# EAGLE library part PIC12*F1572 (library microchip_pic12f)
Low pincount microcontroller http://www.microchip.com/wwwproducts/Devices.aspx?product=PIC12F1572 Properties Parameter Name Value Program Memory Type Flash Program Memory (KB) 3.5 CPU Speed (MIPS) 8 RAM Bytes 256 Digital Communication Peripherals 1-UART, Capture/Compare/PWM Peripherals 3 Timers 2 x 8-bit, 4 x 16-bit ADC 4 ch, 10-bit Comparators 1 Temperature Range (C) -40 to 125 Operating Voltage Range (V) 1.8 to 5.5 Pin Count 8 Cap Touch Channels 4 Features Enhanced Mid-range Core with 49 Instruction, 16 Stack Levels Flash Program Memory with self read/write capability 128 Bytes of Non-Volatile Data Storage, High-Endurance Flash (HEF) Internal clock speeds from 31kHz to 32MHz 3x Standalone 16-bit PWMs Complementary Waveform Generator (CWG) 4 Channel 10-bit ADC with Voltage Reference 5-bit Digital to Analog Converter (DAC) Comparator 2x 8-bit Timers (TMR0/TMR2) 1x 16-bit Timer (TMR1) Three additional 16-bit Timers available using the 16-bit PWMs Extended Watchdog Timer (WDT) Enhanced Power-On/Off-Reset Low-Power Brown-Out Reset (LPBOR) Programmable Brown-Out Reset (BOR) In Circuit Serial Programming (ICSP) PIC12LF1572 (1.8V – 3.6V) PIC12F1572 (2.3V – 5.5V) Library from www.mikroelektroniikka.fi/lbr
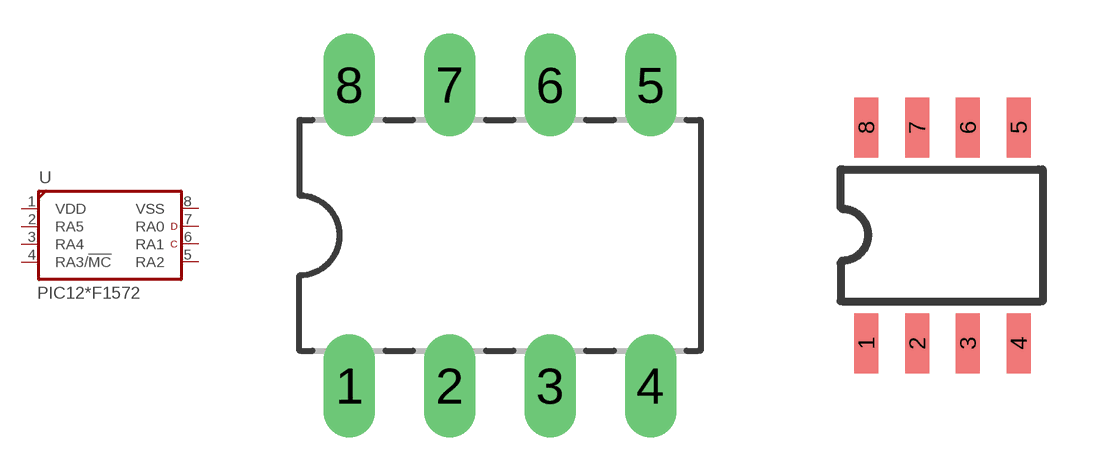
[diagram p1: symbol with the pads of DIL8-P; footprints DIL8-P, SOIC8-SN]

Designator prefix U

## PIC12F1572/P, PIC12LF1572/P  [DIL8-P]
1  VDD  pas
2  RA5
3  RA4
4  RA3/!MC!
5  RA2
6  RA1
7  RA0
8  VSS  pas

## PIC12F1572/SN, PIC12LF1572/SN  [SOIC8-SN]
Pads as for DIL8-P

## PIC12F1572/MS, PIC12LF1572/MS  [MSOP8-MS]
Pads as for DIL8-P

## PIC12F1572/MF, PIC12LF1572/MF  [DFN8-MF]
1  VDD  pas
2  RA5
3  RA4
4  RA3/!MC!
5  RA2
6  RA1
7  RA0
8  VSS  pas
EP  VSS  pas

## Footprint DIL8-P (pad centres in mm)
PDIP8 (P) 8-Lead plastic dual in line - 300mil body
drill 0.8 pad 1.3 long: 1 -3.81,-3.81; 2 -1.27,-3.81; 3 1.27,-3.81; 4 3.81,-3.81; 5 3.81,3.81; 6 1.27,3.81; 7 -1.27,3.81; 8 -3.81,3.81

## Footprint SOIC8-SN (pad centres in mm)
SOIC8 (SN) 8-Lead plastic small outline - narrow - 3.9 mm body
smd 0.6 x 1.5: 1 -1.905,-2.7; 2 -0.635,-2.7; 3 0.635,-2.7; 4 1.905,-2.7; 5 1.905,2.7; 6 0.635,2.7; 7 -0.635,2.7; 8 -1.905,2.7

## Footprint MSOP8-MS (pad centres in mm)
MSOP8 (MS) 8-Lead plastic micro small outline package 3 mm body 0.65 mm pitch - TSSOP8
smd 0.6 x 1.15: 1 -1.05,-2.175; 4 1.05,-2.175; 5 1.05,2.175; 8 -1.05,2.175
smd 0.45 x 1.15: 2 -0.325,-2.175; 3 0.325,-2.175; 6 0.325,2.175; 7 -0.325,2.175

## Footprint DFN8-MF (pad centres in mm)
DFN8 (MF) 8-Lead plastic dual flat, no lead package - 3x3x0.9mm (Microchip)
smd 0.35 x 0.475: 1 -0.975,-1.637; 2 -0.325,-1.637; 3 0.325,-1.637; 4 0.975,-1.637; 5 0.975,1.637; 6 0.325,1.637; 7 -0.325,1.637; 8 -0.975,1.637
smd 2.4 x 1.55: EP 0,0